# EAGLE library part DF40C-10DP-0.4V(51) (library con-hirose-dfc)
HEADER
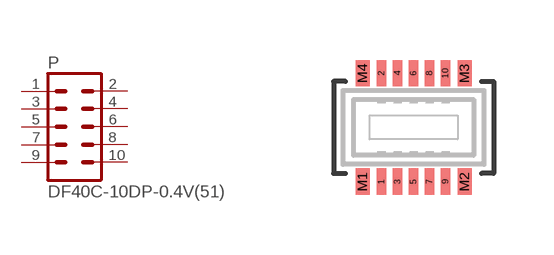
[diagram p0: symbol with the pads of DF40C-10DP-0.4V(51); footprint DF40C-10DP-0.4V(51)]

Designator prefix P

## DF40C-10DP-0.4V(51) (P1I: o)  [DF40C-10DP-0.4V(51)]
1  1  pas
2  2  pas
3  3  pas
4  4  pas
5  5  pas
6  6  pas
7  7  pas
8  8  pas
9  9  pas
10  10  pas

## Footprint DF40C-10DP-0.4V(51) (pad centres in mm)
HEADER
smd 0.23 x 0.66: 1 -0.8,-1.355; 2 -0.8,1.355; 3 -0.4,-1.355; 4 -0.4,1.355; 5 0,-1.355; 6 0,1.355; 7 0.4,-1.355; 8 0.4,1.355; 9 0.8,-1.355; 10 0.8,1.355
smd 0.35 x 0.66: M1 -1.275,-1.355; M2 1.275,-1.355; M3 1.275,1.355; M4 -1.275,1.355